# Altium footprint library LTST-C171KRKT.PcbLib: 3 footprints
Each footprint in its own frame and in the unit in brackets; x right, y up, seen from the top. Pads: shape width x height; smd on the part's side, far side on the other; paste and mask are expansions set on the pad; w line width, h text height; cw(c..) or ccw(c..) is an arc to the next point about the centre after c.
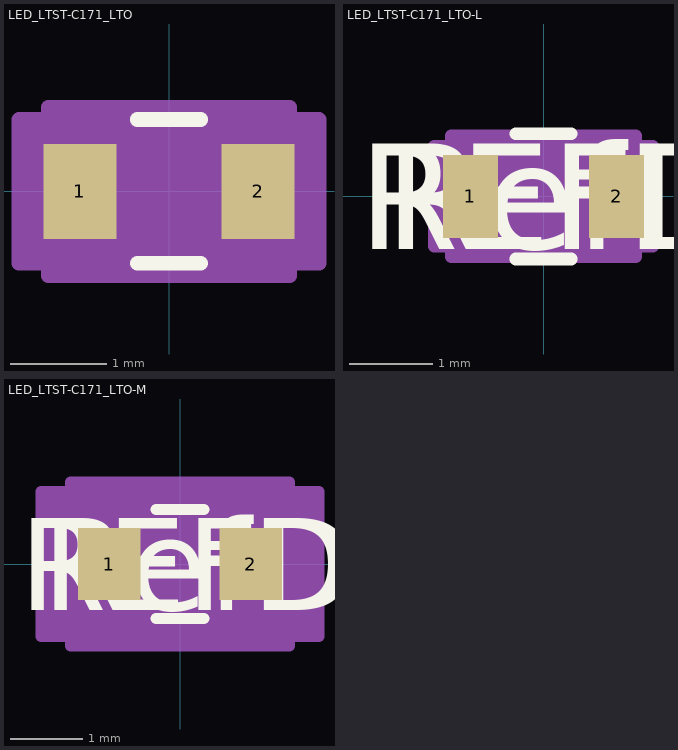
[diagram p0: the footprints below, top view; thin cyan lines are the x and y axes]

## LED_LTST-C171_LTO [mil]
pads (2):
  rect 30x39 smd paste+0 mask+0: 1(-36.5,0) 2(36.5,0)
Top Overlay:
  lines w6: -13.04,-29.5 13.04,-29.5 ; -13.04,29.5 13.04,29.5
Mechanical 13:
  circle w0: c-21.5,0 r3
  lines w0: -12,24.5 ccw(c0,24.5) 12,24.5
  lines w1: -39.5,-24.5 -39.5,24.5 39.5,24.5 39.5,-24.5 -39.5,-24.5
Mechanical 15:
  region: -49.5,-29.5 -61.5,-29.5 -61.5,29.5 -49.5,29.5 -49.5,34.5 49.5,34.5 49.5,29.5 61.5,29.5 61.5,-29.5 49.5,-29.5 49.5,-34.5 -49.5,-34.5
  lines w6: -61.5,-29.5 -49.5,-29.5 -49.5,-34.5 49.5,-34.5 49.5,-29.5 61.5,-29.5 61.5,29.5 49.5,29.5 49.5,34.5 -49.5,34.5 -49.5,29.5 -61.5,29.5 -61.5,-29.5
3D body "LED_LTST-C171_LTO.step": height 32.09, standoff 0, extent -39.49,-24.49 39.49,24.49

## LED_LTST-C171_LTO-L [mil]
pads (2):
  rect 26x39 smd paste+0 mask+0: 1(-34.5,0) 2(34.5,0)
Top Overlay:
  lines w6: -13.04,-29.5 13.04,-29.5 ; -13.04,29.5 13.04,29.5
  text "RefDes" at -75,-25 h50
  text "REFDES" at -87.5,-25 h50
Mechanical 13:
  circle w0: c-21.5,0 r3
  lines w0: -12,24.5 ccw(c0,24.5) 12,24.5
  lines w1: -39.5,-24.5 39.5,-24.5 39.5,24.5 -39.5,24.5 -39.5,-24.5
  text "RefDes2" at -87.5,-25 h50
Mechanical 15:
  region: -43.5,-23.5 -51.5,-23.5 -51.5,23.5 -43.5,23.5 -43.5,28.5 43.5,28.5 43.5,23.5 51.5,23.5 51.5,-23.5 43.5,-23.5 43.5,-28.5 -43.5,-28.5
  lines w6: -51.5,-23.5 -51.5,23.5 -43.5,23.5 -43.5,28.5 43.5,28.5 43.5,23.5 51.5,23.5 51.5,-23.5 43.5,-23.5 43.5,-28.5 -43.5,-28.5 -43.5,-23.5 -51.5,-23.5
3D body "LED_LTST-C171_LTO.step": height 32.09, standoff 0, extent -39.49,-24.49 39.49,24.49

## LED_LTST-C171_LTO-M [mil]
pads (2):
  rect 34x39 smd paste+0 mask+0: 1(-38.5,0) 2(38.5,0)
Top Overlay:
  lines w6: -13.04,-29.5 13.04,-29.5 ; -13.04,29.5 13.04,29.5
  text "RefDes" at -75,-25 h50
  text "REFDES" at -87.5,-25 h50
Mechanical 13:
  circle w0: c-21.5,0 r3
  lines w0: -12,24.5 ccw(c0,24.5) 12,24.5
  lines w1: -39.5,-24.5 39.5,-24.5 39.5,24.5 -39.5,24.5 -39.5,-24.5
  text "RefDes2" at -87.5,-25 h50
Mechanical 15:
  region: -59.5,-39.5 -75.5,-39.5 -75.5,39.5 -59.5,39.5 -59.5,44.5 59.5,44.5 59.5,39.5 75.5,39.5 75.5,-39.5 59.5,-39.5 59.5,-44.5 -59.5,-44.5
  lines w6: -75.5,-39.5 -75.5,39.5 -59.5,39.5 -59.5,44.5 59.5,44.5 59.5,39.5 75.5,39.5 75.5,-39.5 59.5,-39.5 59.5,-44.5 -59.5,-44.5 -59.5,-39.5 -75.5,-39.5
3D body "LED_LTST-C171_LTO.step": height 32.09, standoff 0, extent -39.49,-24.49 39.49,24.49